# Altium footprint library Battery.PcbLib: 2 footprints
Each footprint in its own frame and in the unit in brackets; x right, y up, seen from the top. Pads: shape width x height; smd on the part's side, far side on the other; paste and mask are expansions set on the pad; w line width, h text height; cw(c..) or ccw(c..) is an arc to the next point about the centre after c.
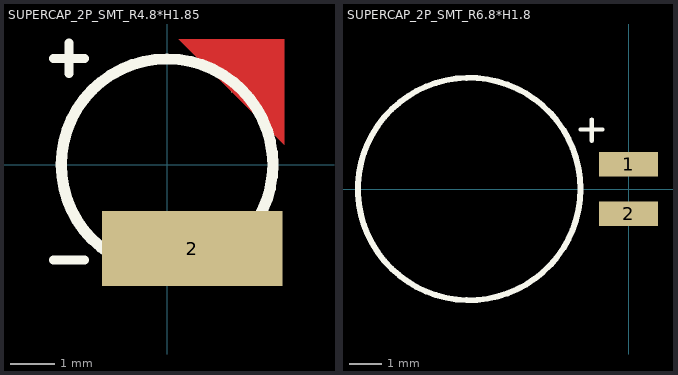
[diagram p0: the footprints below, top view; thin cyan lines are the x and y axes]

## SUPERCAP_2P_SMT_R4.8*H1.85 [mil]
pads (2):
  round 1 smd: 1(57.5,65)
  rect 161.42x66.93 smd: 2(22.5,-75)
Top Layer:
  region: 62.5,60 10.26,112.24 104.74,112.24 104.74,17.76
Top Overlay:
  circle w10: c0,0 r94.49
  lines w8: -101.28,-85 -87.5,-85 -73.72,-85 ; -101.28,95 -87.5,95 ; -87.5,81.22 -87.5,95 ; -87.5,108.78 -87.5,95 ; -73.72,95 -87.5,95
3D body "User Library-XH414H-IV01E.STEP": height 65.35, standoff 1.38, extent -94.49,-94.49 94.53,94.49

## SUPERCAP_2P_SMT_R6.8*H1.8 [mm]
pads (2):
  rect 1.801x0.75 smd: 1(0,0.75) 2(0,-0.75)
Top Overlay:
  circle w0.178: c-4.875,0 r3.401
  lines w0.127: -1.475,1.825 -0.8,1.825 ; -1.125,1.475 -1.125,2.125